# Altium footprint library rcl@1.PCBLIB: 487 footprints (part 28 of 31)
Each footprint in its own frame and in the unit in brackets; x right, y up, seen from the top. Pads: shape width x height; smd on the part's side, far side on the other; paste and mask are expansions set on the pad; w line width, h text height; cw(c..) or ccw(c..) is an arc to the next point about the centre after c.
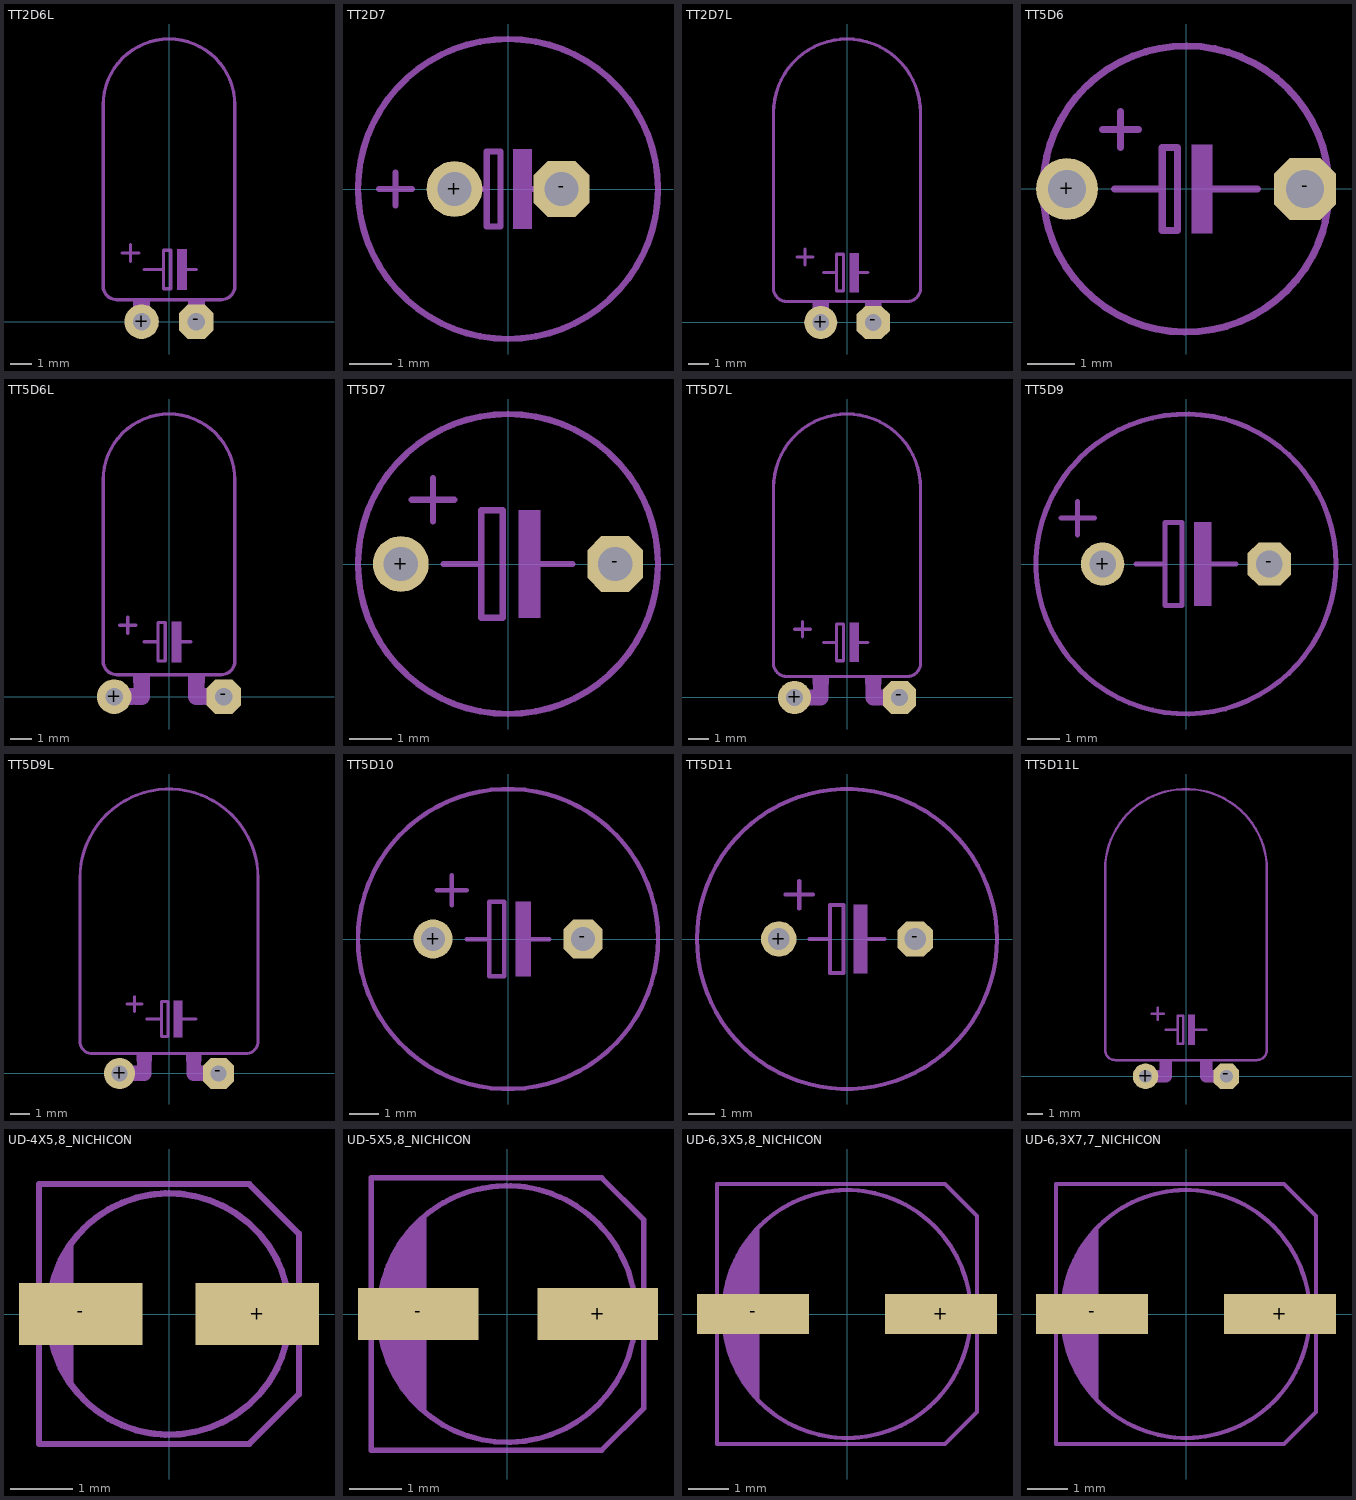
[diagram p27: the footprints below, top view; thin cyan lines are the x and y axes]

## TT2D6L [mil]
pads (2):
  round 63 hole 32: +(-50,0)
  oct 63x63 / inner round 58.2 / far side oct 63x63 hole 32: -(50,0)
tDocu:
  region: -65,25 -65,40 -35,40 -35,25
  region: 35,25 35,40 65,40 65,25
  region: 35,-5 35,25 65,25 65,-5
  region: -65,-5 -65,25 -35,25 -35,-5
tPlace:
  region: 15,58 15,132 32,132 32,58
  lines w6: -85,125 -55,125 ; -70,110 -70,140 ; -45,95 -10,95 ; 30,95 50,95 ; -10,95 -10,60 3,60 3,130 -10,130 -10,95 ; -120,65 -120,395 cw(c0,395) 120,395 120,65 cw(c95,65) 95,40 -95,40 cw(c-95,65) -120,65
  text "TT" at 105,65 h60.45

## TT2D7 [mil]
pads (2):
  round 52 hole 32: +(-50,0)
  oct 52x52 / inner round 48.04 / far side oct 52x52 hole 32: -(50,0)
tDocu:
  region: 5,-37 5,37 22,37 22,-37
  lines w6: -40,0 -20,0 ; 20,0 40,0 ; -20,0 -20,-35 -7,-35 -7,35 -20,35 -20,0
tPlace:
  circle w6: c0,0 r140
  lines w6: -120,0 -90,0 ; -105,-15 -105,15
  text "TT" at 5,-105 h77.5

## TT2D7L [mil]
pads (2):
  round 63 hole 32: +(-50,0)
  oct 63x63 / inner round 58.2 / far side oct 63x63 hole 32: -(50,0)
tDocu:
  region: -65,25 -65,40 -35,40 -35,25
  region: 35,25 35,40 65,40 65,25
  region: 35,-5 35,25 65,25 65,-5
  region: -65,-5 -65,25 -35,25 -35,-5
tPlace:
  region: 5,58 5,132 22,132 22,58
  lines w6: -95,125 -65,125 ; -80,110 -80,140 ; -45,95 -20,95 ; 20,95 40,95 ; -20,95 -20,60 -7,60 -7,130 -20,130 -20,95 ; -140,65 ccw(c-115,65) -115,40 115,40 ccw(c115,65) 140,65 140,400 ccw(c0,400) -140,400 -140,65
  text "TT" at 120,65 h77.5

## TT5D6 [mil]
pads (2):
  round 52 hole 32: +(-100,0)
  oct 52x52 / inner round 48.04 / far side oct 52x52 hole 32: -(100,0)
tDocu:
  lines w6: -115,-35 cw(c0,0) -114.04,38.01 ; 114.04,-38.01 ccw(c0,0) 115,35
tPlace:
  region: 5,-37 5,37 22,37 22,-37
  lines w6: -115.76,-32.41 ccw(c0,0) 115,-35 ; -114.49,36.64 cw(c0,0) 115,35 ; -70,50 -40,50 ; -60,0 -20,0 ; -55,35 -55,65 ; 20,0 60,0 ; -20,0 -20,-35 -7,-35 -7,35 -20,35 -20,0
  text "TT" at 20,-85 h60.45

## TT5D6L [mil]
pads (2):
  round 63 hole 32: +(-100,0)
  oct 63x63 / inner round 58.2 / far side oct 63x63 hole 32: -(100,0)
tDocu:
  region: 65,-15 65,15 100,15 100,-15
  region: -100,-15 -100,15 -65,15 -65,-15
  lines w30: -60,0 -50,0 ; 50,0 60,0
tPlace:
  region: -65,25 -65,40 -35,40 -35,25
  region: 35,25 35,40 65,40 65,25
  region: 5,63 5,137 22,137 22,63
  lines w6: -90,130 -60,130 ; -75,115 -75,145 ; -45,100 -20,100 ; 20,100 40,100 ; -20,100 -20,65 -7,65 -7,135 -20,135 -20,100 ; -120,65 -120,395 cw(c0,395) 120,395 120,65 cw(c95,65) 95,40 -95,40 cw(c-95,65) -120,65
  lines w30: -50,0 -50,25 ; 50,0 50,25
  text "TT" at 105,60 h77.5

## TT5D7 [mil]
pads (2):
  round 52 hole 32: +(-100,0)
  oct 52x52 / inner round 48.04 / far side oct 52x52 hole 32: -(100,0)
tPlace:
  circle w6: c0,0 r140
  region: 10,-50 10,50 30,50 30,-50
  lines w6: -90,60 -50,60 ; -70,40 -70,80 ; -60,0 -25,0 ; 25,0 60,0 ; -25,0 -25,-50 -5,-50 -5,50 -25,50 -25,0
  text "TT" at 25,-105 h60.45

## TT5D7L [mil]
pads (2):
  round 63 hole 32: +(-100,0)
  oct 63x63 / inner round 58.2 / far side oct 63x63 hole 32: -(100,0)
tDocu:
  region: 65,-15 65,15 100,15 100,-15
  region: -100,-15 -100,15 -65,15 -65,-15
  lines w30: -60,0 -50,0 ; 50,0 60,0
tPlace:
  region: -65,25 -65,40 -35,40 -35,25
  region: 35,25 35,40 65,40 65,25
  region: 5,68 5,142 22,142 22,68
  lines w6: -100,130 -70,130 ; -85,115 -85,145 ; -45,105 -20,105 ; 20,105 40,105 ; -20,105 -20,70 -7,70 -7,140 -20,140 -20,105 ; -140,65 -140,400 cw(c0,400) 140,400 140,65 cw(c115,65) 115,40 -115,40 cw(c-115,65) -140,65
  lines w30: -50,0 -50,25 ; 50,0 50,25
  text "TT" at 125,65 h77.5

## TT5D9 [mil]
pads (2):
  round 52 hole 32: +(-100,0)
  oct 52x52 / inner round 48.04 / far side oct 52x52 hole 32: -(100,0)
tPlace:
  circle w6: c0,0 r180
  region: 10,-50 10,50 30,50 30,-50
  lines w6: -150,55 -110,55 ; -130,35 -130,75 ; -60,0 -25,0 ; 25,0 60,0 ; -25,0 -25,-50 -5,-50 -5,50 -25,50 -25,0
  text "TT" at 85,40 h60.45

## TT5D9L [mil]
pads (2):
  round 63 hole 32: +(-100,0)
  oct 63x63 / inner round 58.2 / far side oct 63x63 hole 32: -(100,0)
tDocu:
  region: 65,-15 65,15 100,15 100,-15
  region: -100,-15 -100,15 -65,15 -65,-15
  lines w30: -60,0 -50,0 ; 50,0 60,0
tPlace:
  region: -65,25 -65,40 -35,40 -35,25
  region: 35,25 35,40 65,40 65,25
  region: 10,73 10,147 27,147 27,73
  lines w6: -85,140 -55,140 ; -70,125 -70,155 ; -45,110 -15,110 ; 25,110 55,110 ; -15,110 -15,75 -2,75 -2,145 -15,145 -15,110 ; -180,65 -180,395 cw(c0,395) 180,395 180,65 cw(c155,65) 155,40 -155,40 cw(c-155,65) -180,65
  lines w30: -50,0 -50,25 ; 50,0 50,25
  text "TT" at 160,70 h77.5

## TT5D10 [mil]
pads (2):
  round 52 hole 32: +(-100,0)
  oct 52x52 / inner round 48.04 / far side oct 52x52 hole 32: -(100,0)
tPlace:
  circle w6: c0,0 r200
  region: 10,-50 10,50 30,50 30,-50
  lines w6: -95,65 -55,65 ; -75,45 -75,85 ; -55,0 -25,0 ; 25,0 55,0 ; -25,0 -25,-50 -5,-50 -5,50 -25,50 -25,0
  text "TT" at 110,45 h60.45

## TT5D11 [mil]
pads (2):
  round 52 hole 32: +(-100,0)
  oct 52x52 / inner round 48.04 / far side oct 52x52 hole 32: -(100,0)
tPlace:
  circle w6: c0,0 r220
  region: 10,-50 10,50 30,50 30,-50
  lines w6: -90,65 -50,65 ; -70,45 -70,85 ; -55,0 -25,0 ; 25,0 55,0 ; -25,0 -25,-50 -5,-50 -5,50 -25,50 -25,0
  text "TT" at 125,40 h60.45

## TT5D11L [mil]
pads (2):
  round 63 hole 32: +(-100,0)
  oct 63x63 / inner round 58.2 / far side oct 63x63 hole 32: -(100,0)
tDocu:
  region: 65,-15 65,15 100,15 100,-15
  region: -100,-15 -100,15 -65,15 -65,-15
  lines w30: -60,0 -50,0 ; 50,0 60,0
tPlace:
  region: -65,25 -65,40 -35,40 -35,25
  region: 35,25 35,40 65,40 65,25
  region: 5,78 5,152 22,152 22,78
  lines w6: -85,155 -55,155 ; -70,140 -70,170 ; -50,115 -20,115 ; 20,115 50,115 ; -20,115 -20,80 -7,80 -7,150 -20,150 -20,115 ; -200,65 -200,510 cw(c0,510) 200,510 200,65 cw(c175,65) 175,40 -175,40 cw(c-175,65) -200,65
  lines w30: -50,0 -50,25 ; 50,0 50,25
  text "TT" at 180,65 h77.5

## UD-4X5,8_NICHICON [mm]
pads (2):
  rect 2x1 smd: +(1.425,0) -(-1.425,0)
tDocu:
  circle w0.102: c0,0 r1.953
  region: -1.55,1.175 -1.643,1.048 -1.786,0.768 -1.884,0.468 -1.933,0.157 -1.933,-0.157 -1.884,-0.468 -1.786,-0.768 -1.643,-1.048 -1.55,-1.175
  lines w0.102: -2.1,-2.1 1.3,-2.1 2.1,-1.3 2.1,1.3 1.3,2.1 -2.1,2.1 -2.1,-2.1
tPlace:
  lines w0.102: -2.1,-0.9 -2.1,-2.1 1.3,-2.1 2.1,-1.3 ; -2.1,0.9 -2.1,2.1 1.3,2.1 2.1,1.3 ; -1.75,-0.875 ccw(c0,0.012) 1.75,-0.875 ; -1.75,0.875 cw(c0,-0.012) 1.75,0.875

## UD-5X5,8_NICHICON [mm]
pads (2):
  rect 2.3x1 smd: +(1.725,0) -(-1.7,0)
tDocu:
  circle w0.102: c0,0 r2.45
  region: -1.55,1.875 -1.687,1.761 -1.924,1.494 -2.12,1.196 -2.271,0.873 -2.374,0.531 -2.425,0.178 -2.425,-0.178 -2.374,-0.531 -2.271,-0.873 -2.12,-1.196 -1.924,-1.494 -1.687,-1.761 -1.55,-1.875
  lines w0.102: -2.6,-2.6 1.8,-2.6 2.6,-1.8 2.6,1.8 1.8,2.6 -2.6,2.6 -2.6,-2.6
tPlace:
  lines w0.102: -2.6,-0.7 -2.6,-2.6 1.8,-2.6 2.6,-1.8 ; -2.6,0.7 -2.6,2.6 1.8,2.6 2.6,1.8 ; -2.3,0.85 cw(c-0.003,-0.004) 2.275,0.9 ; -2.275,-0.9 ccw(c0.003,0.004) 2.3,-0.85

## UD-6,3X5,8_NICHICON [mm]
pads (2):
  rect 2.8x1 smd: +(2.35,0) -(-2.35,0)
tDocu:
  circle w0.102: c0,0 r3.1
  region: -2.2,2.15 -2.339,2.008 -2.577,1.69 -2.773,1.345 -2.923,0.977 -3.024,0.593 -3.075,0.199 -3.075,-0.199 -3.024,-0.593 -2.923,-0.977 -2.773,-1.345 -2.577,-1.69 -2.339,-2.008 -2.2,-2.15
  lines w0.102: -3.25,-3.25 2.45,-3.25 3.25,-2.45 3.25,2.45 2.45,3.25 -3.25,3.25 -3.25,-3.25
tPlace:
  lines w0.102: -3.25,-0.7 -3.25,-3.25 2.45,-3.25 3.25,-2.45 ; -3.25,0.8 -3.25,3.25 2.45,3.25 3.25,2.45 ; -3,0.775 cw(c-0.002,0.005) 2.975,0.85 ; -2.975,-0.85 ccw(c0.002,-0.005) 3,-0.775

## UD-6,3X7,7_NICHICON [mm]
pads (2):
  rect 2.8x1 smd: +(2.35,0) -(-2.35,0)
tDocu:
  circle w0.102: c0,0 r3.1
  region: -2.2,2.15 -2.339,2.008 -2.577,1.69 -2.773,1.345 -2.923,0.977 -3.024,0.593 -3.075,0.199 -3.075,-0.199 -3.024,-0.593 -2.923,-0.977 -2.773,-1.345 -2.577,-1.69 -2.339,-2.008 -2.2,-2.15
  lines w0.102: -3.25,-3.25 2.45,-3.25 3.25,-2.45 3.25,2.45 2.45,3.25 -3.25,3.25 -3.25,-3.25
tPlace:
  lines w0.102: -3.25,-0.7 -3.25,-3.25 2.45,-3.25 3.25,-2.45 ; -3.25,0.8 -3.25,3.25 2.45,3.25 3.25,2.45 ; -3,0.775 cw(c-0.002,0.005) 2.975,0.85 ; -2.975,-0.85 ccw(c0.002,-0.005) 3,-0.775